# Altium schematic symbol library STM32WB.SchLib: 2 symbols
Pins are listed as number, name and electrical type; pins without a type are passive.

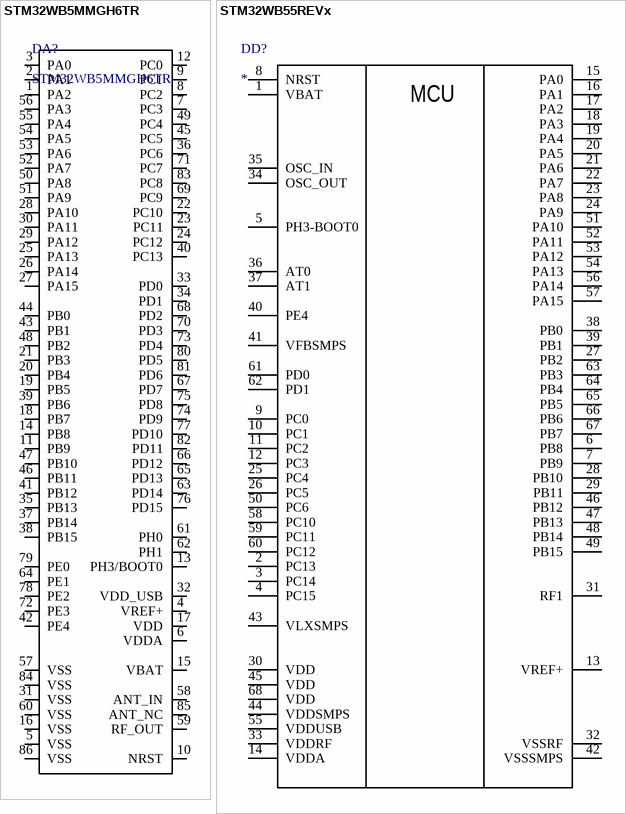
[diagram p0: symbols STM32WB5MMGH6TR to STM32WB55REVx]

## STM32WB5MMGH6TR
designator DA?
802.15.4, Bluetooth Bluetooth v5.0, Thread, Zigbee® Transceiver Module 2.4GHz Integrated, Chip Surface Mount
footprint STM32WB5MMGH6TR
pins: 1 PA2, 2 PA1, 3 PA0, 4 VREF+, 5 VSS, 6 VDDA, 7 PC3, 8 PC2, 9 PC1, 10 NRST, 11 PB9, 12 PC0, 13 PH3/BOOT0, 14 PB8, 15 VBAT, 16 VSS, 17 VDD, 18 PB7, 19 PB5, 20 PB4, 21 PB3, 22 PC10, 23 PC11, 24 PC12, 25 PA13, 26 PA14, 27 PA15, 28 PA10, 29 PA12, 30 PA11, 31 VSS, 32 VDD_USB, 33 PD0, 34 PD1, 35 PB13, 36 PC6, 37 PB14, 38 PB15, 39 PB6, 40 PC13, 41 PB12, 42 PE4, 43 PB1, 44 PB0, 45 PC5, 46 PB11, 47 PB10, 48 PB2, 49 PC4, 50 PA8, 51 PA9, 52 PA7, 53 PA6, 54 PA5, 55 PA4, 56 PA3, 57 VSS, 58 ANT_IN, 59 RF_OUT, 60 VSS, 61 PH0, 62 PH1, 63 PD14, 64 PE1, 65 PD13, 66 PD12, 67 PD7, 68 PD2, 69 PC9, 70 PD3, 71 PC7, 72 PE3, 73 PD4, 74 PD9, 75 PD8, 76 PD15, 77 PD10, 78 PE2, 79 PE0, 80 PD5, 81 PD6, 82 PD11, 83 PC8, 84 VSS, 85 ANT_NC, 86 VSS

## STM32WB55REVx
designator DD?
STMicroelectronics Arm Cortex-M4 MCU, 512KB flash, 256KB RAM, 64 MHz, 1.71-3.6V, 49 GPIO, VFQFPN68; ComponentLink1Description: Datasheet; ComponentLink1URL: https://www.st.com/resource/en/datasheet/stm32wb55re.pdf
pins: 1 VBAT, 2 PC13, 3 PC14 "OSC32_IN", 4 PC15 "OSC32_OUT", 5 PH3-BOOT0, 6 PB8, 7 PB9, 8 NRST, 9 PC0, 10 PC1, 11 PC2, 12 PC3, 13 VREF+, 14 VDDA, 15 PA0, 16 PA1, 17 PA2, 18 PA3, 19 PA4, 20 PA5, 21 PA6, 22 PA7, 23 PA8, 24 PA9, 25 PC4, 26 PC5, 27 PB2, 28 PB10, 29 PB11, 30 VDD, 31 RF1, 32 VSSRF, 33 VDDRF, 34 OSC_OUT, 35 OSC_IN, 36 AT0, 37 AT1, 38 PB0, 39 PB1, 40 PE4, 41 VFBSMPS, 42 VSSSMPS, 43 VLXSMPS, 44 VDDSMPS, 45 VDD, 46 PB12, 47 PB13, 48 PB14, 49  PB15, 50 PC6, 51 PA10, 52 PA11, 53 PA12, 54 PA13, 55 VDDUSB, 56 PA14, 57 PA15, 58 PC10, 59 PC11, 60 PC12, 61 PD0, 62 PD1, 63 PB3, 64 PB4, 65 PB5, 66 PB6, 67 PB7, 68 VDD
text: MCU